# EAGLE library part SIM800L (library Richard_Boards)
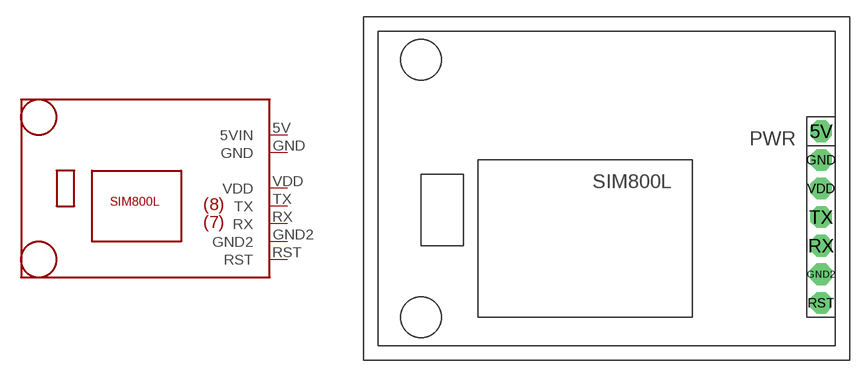
[diagram p6: symbol with the pads of SIM800L; footprint SIM800L]

Designator prefix -

## SIM800L  [SIM800L]
5V  5VIN  pas
GND  GND  pas
GND2  GND2  pas
RST  RST  pas
RX  RX  pas
TX  TX  pas
VDD  VDD  pas

## Footprint SIM800L (pad centres in mm)
drill 1.016 pad 1.93 octagon: 5V 6.35,15.24; GND 6.35,12.7; GND2 6.35,2.54; RST 6.35,0; RX 6.35,5.08; TX 6.35,7.62; VDD 6.35,10.16